# Altium footprint library C_THT.PcbLib: 71 footprints (part 2 of 5)
Each footprint in its own frame and in the unit in brackets; x right, y up, seen from the top. Pads: shape width x height; smd on the part's side, far side on the other; paste and mask are expansions set on the pad; w line width, h text height; cw(c..) or ccw(c..) is an arc to the next point about the centre after c.
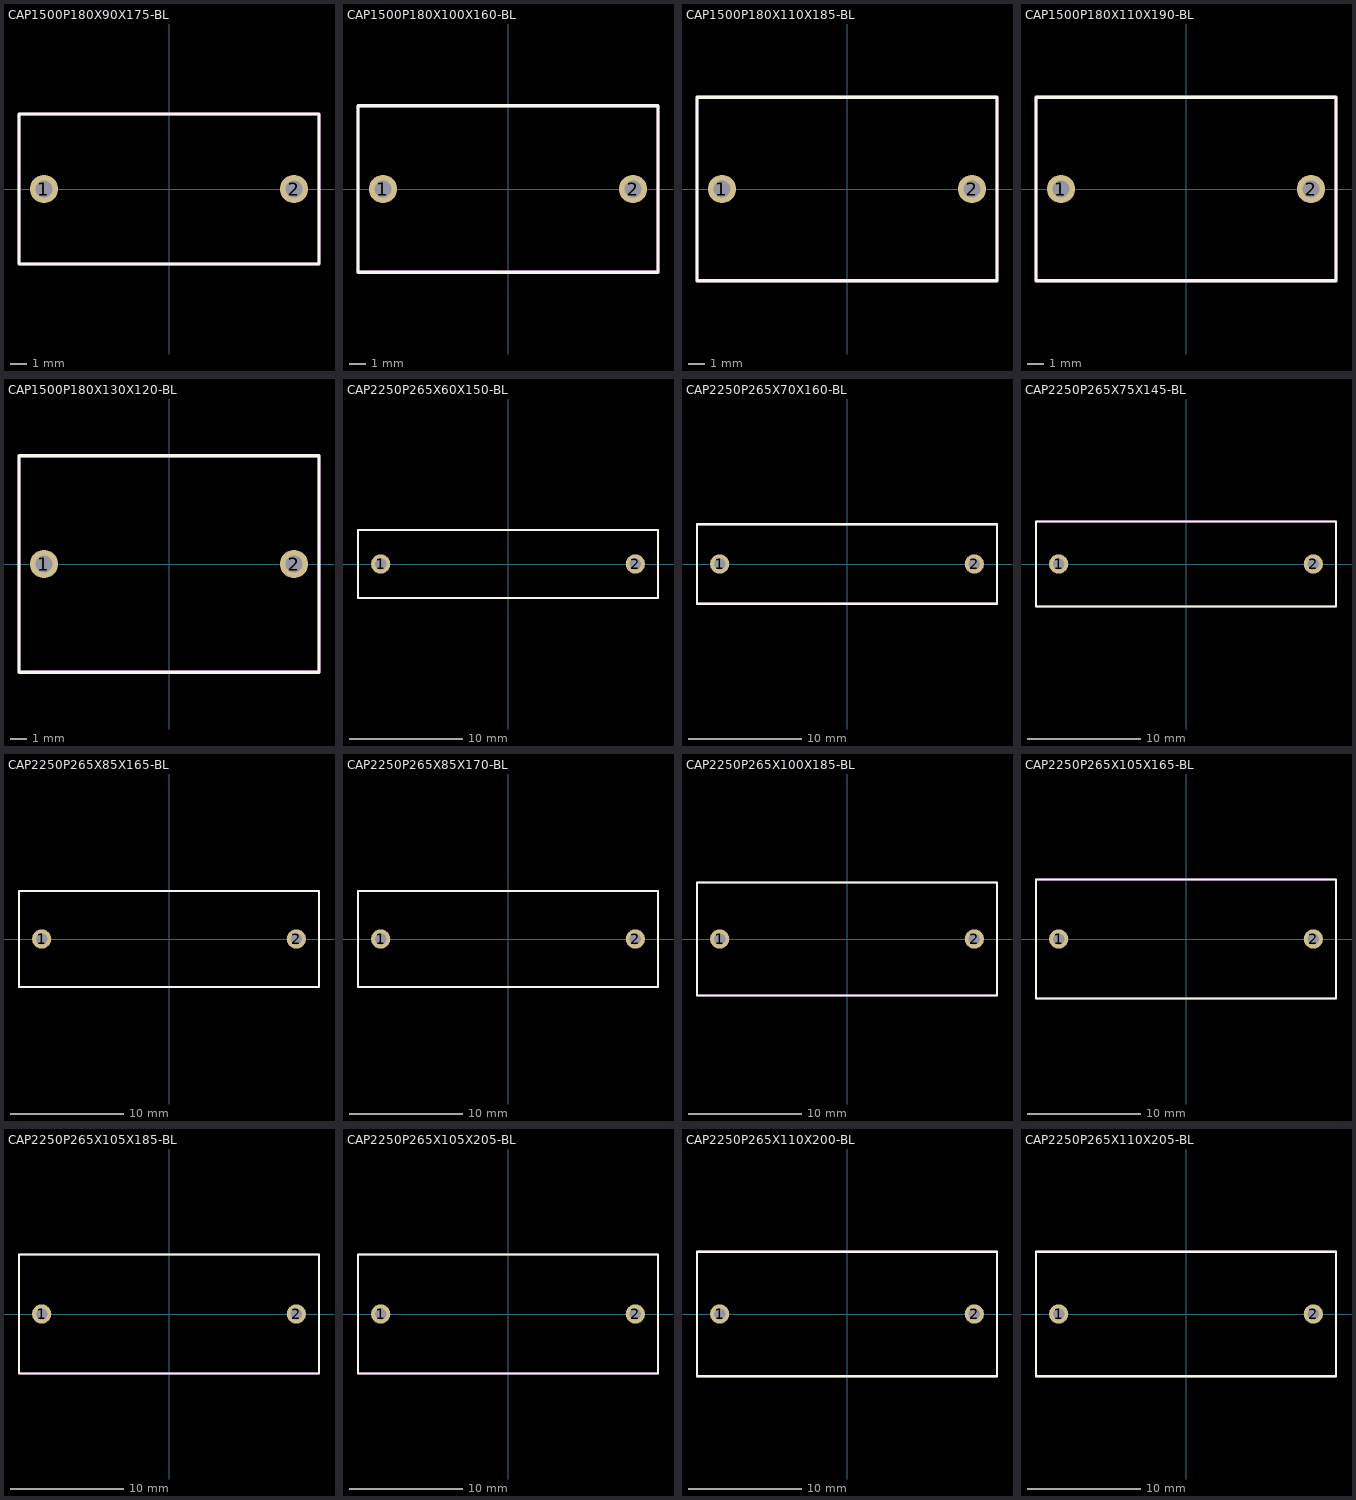
[diagram p1: the footprints below, top view; thin cyan lines are the x and y axes]

## CAP1500P180X90X175-BL [mm]
pads (2):
  round 1.7 hole 1: 1(-7.5,0) 2(7.5,0)
Top Overlay:
  lines w0.2: -9,-4.5 9,-4.5 9,4.5 -9,4.5 -9,-4.5
Top Assembly:
  lines w0.2: -9,-4.5 9,-4.5 9,4.5 -9,4.5 -9,-4.5
3D body: height 17.5, standoff 0, extent -9,-4.5 9,4.5
3D body: height 0, standoff -4, extent 7.1,-0.4 7.9,0.4
3D body: height 0, standoff -4, extent -7.9,-0.4 -7.1,0.4

## CAP1500P180X100X160-BL [mm]
pads (2):
  round 1.7 hole 1: 1(-7.5,0) 2(7.5,0)
Top Overlay:
  lines w0.2: -9,-5 9,-5 9,5 -9,5 -9,-5
Top Assembly:
  lines w0.2: -9,-5 9,-5 9,5 -9,5 -9,-5
3D body: height 16, standoff 0, extent -9,-5 9,5
3D body: height 0, standoff -4, extent 7.1,-0.4 7.9,0.4
3D body: height 0, standoff -4, extent -7.9,-0.4 -7.1,0.4

## CAP1500P180X110X185-BL [mm]
pads (2):
  round 1.7 hole 1: 1(-7.5,0) 2(7.5,0)
Top Overlay:
  lines w0.2: -9,-5.5 -9,5.5 9,5.5 9,-5.5 -9,-5.5
Top Assembly:
  lines w0.2: -9,-5.5 -9,5.5 9,5.5 9,-5.5 -9,-5.5
3D body: height 0, standoff -4, extent -7.9,-0.4 -7.1,0.4
3D body: height 0, standoff -4, extent 7.1,-0.4 7.9,0.4
3D body: height 18.5, standoff 0, extent -9,-5.5 9,5.5

## CAP1500P180X110X190-BL [mm]
pads (2):
  round 1.7 hole 1: 1(-7.5,0) 2(7.5,0)
Top Overlay:
  lines w0.2: -9,-5.5 -9,5.5 9,5.5 9,-5.5 -9,-5.5
Top Assembly:
  lines w0.2: -9,-5.5 -9,5.5 9,5.5 9,-5.5 -9,-5.5
3D body: height 0, standoff -4, extent -7.9,-0.4 -7.1,0.4
3D body: height 0, standoff -4, extent 7.1,-0.4 7.9,0.4
3D body: height 19, standoff 0, extent -9,-5.5 9,5.5

## CAP1500P180X130X120-BL [mm]
pads (2):
  round 1.7 hole 1: 1(-7.5,0) 2(7.5,0)
Top Overlay:
  lines w0.2: -9,-6.5 -9,6.5 9,6.5 9,-6.5 -9,-6.5
Top Assembly:
  lines w0.2: -9,-6.5 -9,6.5 9,6.5 9,-6.5 -9,-6.5
3D body: height 0, standoff -4, extent -7.9,-0.4 -7.1,0.4
3D body: height 0, standoff -4, extent 7.1,-0.4 7.9,0.4
3D body: height 12, standoff 0, extent -9,-6.5 9,6.5

## CAP2250P265X60X150-BL [mm]
pads (2):
  round 1.7 hole 1: 1(-11.25,0) 2(11.25,0)
Top Overlay:
  lines w0.2: -13.25,-3 13.25,-3 13.25,3 -13.25,3 -13.25,-3
Top Assembly:
  lines w0.2: -13.25,-3 13.25,-3 13.25,3 -13.25,3 -13.25,-3
3D body: height 15, standoff 0, extent -13.25,-3 13.25,3
3D body: height 0, standoff -4, extent 10.85,-0.4 11.65,0.4
3D body: height 0, standoff -4, extent -11.65,-0.4 -10.85,0.4

## CAP2250P265X70X160-BL [mm]
pads (2):
  round 1.7 hole 1: 1(-11.25,0) 2(11.25,0)
Top Overlay:
  lines w0.2: -13.25,-3.5 13.25,-3.5 13.25,3.5 -13.25,3.5 -13.25,-3.5
Top Assembly:
  lines w0.2: -13.25,-3.5 13.25,-3.5 13.25,3.5 -13.25,3.5 -13.25,-3.5
3D body: height 16, standoff 0, extent -13.25,-3.5 13.25,3.5
3D body: height 0, standoff -4, extent 10.85,-0.4 11.65,0.4
3D body: height 0, standoff -4, extent -11.65,-0.4 -10.85,0.4

## CAP2250P265X75X145-BL [mm]
pads (2):
  round 1.7 hole 1: 1(-11.25,0) 2(11.25,0)
Top Overlay:
  lines w0.2: -13.25,-3.75 13.25,-3.75 13.25,3.75 -13.25,3.75 -13.25,-3.75
Top Assembly:
  lines w0.2: -13.25,-3.75 13.25,-3.75 13.25,3.75 -13.25,3.75 -13.25,-3.75
3D body: height 14.5, standoff 0, extent -13.25,-3.75 13.25,3.75
3D body: height 0, standoff -4, extent 10.85,-0.4 11.65,0.4
3D body: height 0, standoff -4, extent -11.65,-0.4 -10.85,0.4

## CAP2250P265X85X165-BL [mm]
pads (2):
  round 1.7 hole 1: 1(-11.25,0) 2(11.25,0)
Top Overlay:
  lines w0.2: -13.25,-4.25 -13.25,4.25 13.25,4.25 13.25,-4.25 -13.25,-4.25
Top Assembly:
  lines w0.2: -13.25,-4.25 -13.25,4.25 13.25,4.25 13.25,-4.25 -13.25,-4.25
3D body: height 0, standoff -4, extent -11.65,-0.4 -10.85,0.4
3D body: height 0, standoff -4, extent 10.85,-0.4 11.65,0.4
3D body: height 16.5, standoff 0, extent -13.25,-4.25 13.25,4.25

## CAP2250P265X85X170-BL [mm]
pads (2):
  round 1.7 hole 1: 1(-11.25,0) 2(11.25,0)
Top Overlay:
  lines w0.2: -13.25,-4.25 13.25,-4.25 13.25,4.25 -13.25,4.25 -13.25,-4.25
Top Assembly:
  lines w0.2: -13.25,-4.25 13.25,-4.25 13.25,4.25 -13.25,4.25 -13.25,-4.25
3D body: height 17, standoff 0, extent -13.25,-4.25 13.25,4.25
3D body: height 0, standoff -4, extent 10.85,-0.4 11.65,0.4
3D body: height 0, standoff -4, extent -11.65,-0.4 -10.85,0.4

## CAP2250P265X100X185-BL [mm]
pads (2):
  round 1.7 hole 1: 1(-11.25,0) 2(11.25,0)
Top Overlay:
  lines w0.2: -13.25,-5 -13.25,5 13.25,5 13.25,-5 -13.25,-5
Top Assembly:
  lines w0.2: -13.25,-5 -13.25,5 13.25,5 13.25,-5 -13.25,-5
3D body: height 0, standoff -4, extent -11.65,-0.4 -10.85,0.4
3D body: height 0, standoff -4, extent 10.85,-0.4 11.65,0.4
3D body: height 18.5, standoff 0, extent -13.25,-5 13.25,5

## CAP2250P265X105X165-BL [mm]
pads (2):
  round 1.7 hole 1: 1(-11.25,0) 2(11.25,0)
Top Overlay:
  lines w0.2: -13.25,-5.25 -13.25,5.25 13.25,5.25 13.25,-5.25 -13.25,-5.25
Top Assembly:
  lines w0.2: -13.25,-5.25 -13.25,5.25 13.25,5.25 13.25,-5.25 -13.25,-5.25
3D body: height 0, standoff -4, extent -11.65,-0.4 -10.85,0.4
3D body: height 0, standoff -4, extent 10.85,-0.4 11.65,0.4
3D body: height 16.5, standoff 0, extent -13.25,-5.25 13.25,5.25

## CAP2250P265X105X185-BL [mm]
pads (2):
  round 1.7 hole 1: 1(-11.25,0) 2(11.25,0)
Top Overlay:
  lines w0.2: -13.25,-5.25 -13.25,5.25 13.25,5.25 13.25,-5.25 -13.25,-5.25
Top Assembly:
  lines w0.2: -13.25,-5.25 -13.25,5.25 13.25,5.25 13.25,-5.25 -13.25,-5.25
3D body: height 0, standoff -4, extent -11.65,-0.4 -10.85,0.4
3D body: height 0, standoff -4, extent 10.85,-0.4 11.65,0.4
3D body: height 18.5, standoff 0, extent -13.25,-5.25 13.25,5.25

## CAP2250P265X105X205-BL [mm]
pads (2):
  round 1.7 hole 1: 1(-11.25,0) 2(11.25,0)
Top Overlay:
  lines w0.2: -13.25,-5.25 13.25,-5.25 13.25,5.25 -13.25,5.25 -13.25,-5.25
Top Assembly:
  lines w0.2: -13.25,-5.25 13.25,-5.25 13.25,5.25 -13.25,5.25 -13.25,-5.25
3D body: height 20.5, standoff 0, extent -13.25,-5.25 13.25,5.25
3D body: height 0, standoff -4, extent 10.85,-0.4 11.65,0.4
3D body: height 0, standoff -4, extent -11.65,-0.4 -10.85,0.4

## CAP2250P265X110X200-BL [mm]
pads (2):
  round 1.7 hole 1: 1(-11.25,0) 2(11.25,0)
Top Overlay:
  lines w0.2: -13.25,-5.5 -13.25,5.5 13.25,5.5 13.25,-5.5 -13.25,-5.5
Top Assembly:
  lines w0.2: -13.25,-5.5 -13.25,5.5 13.25,5.5 13.25,-5.5 -13.25,-5.5
3D body: height 0, standoff -4, extent -11.65,-0.4 -10.85,0.4
3D body: height 0, standoff -4, extent 10.85,-0.4 11.65,0.4
3D body: height 20, standoff 0, extent -13.25,-5.5 13.25,5.5

## CAP2250P265X110X205-BL [mm]
pads (2):
  round 1.7 hole 1: 1(-11.25,0) 2(11.25,0)
Top Overlay:
  lines w0.2: -13.25,-5.5 -13.25,5.5 13.25,5.5 13.25,-5.5 -13.25,-5.5
Top Assembly:
  lines w0.2: -13.25,-5.5 -13.25,5.5 13.25,5.5 13.25,-5.5 -13.25,-5.5
3D body: height 0, standoff -4, extent -11.65,-0.4 -10.85,0.4
3D body: height 0, standoff -4, extent 10.85,-0.4 11.65,0.4
3D body: height 20.5, standoff 0, extent -13.25,-5.5 13.25,5.5